# Altium integrated library AUVic_Integrated_Library_Op_amps.IntLib: 8 symbols
Pins are listed as number, name and electrical type; pins without a type are passive.

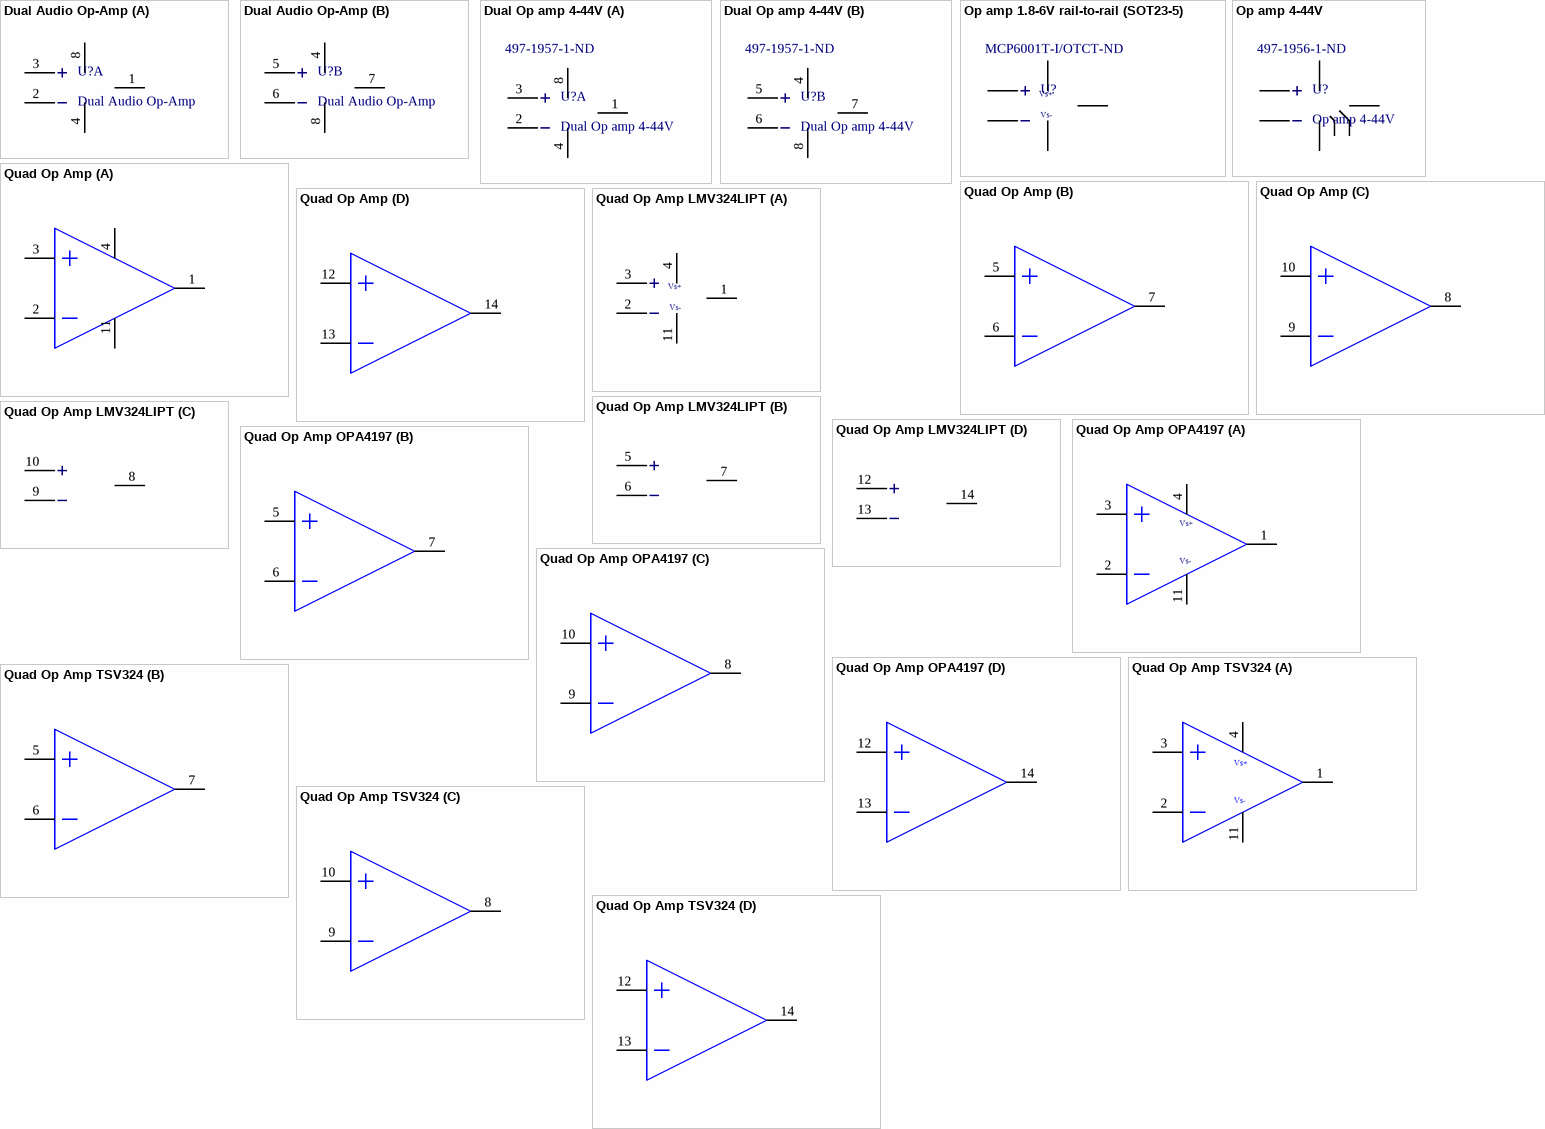
[diagram p0: symbols Dual Audio Op-Amp to Quad Op Amp TSV324]

## Dual Audio Op-Amp
designator U?
LM833; Made by: Jordan Day; Created on: 09/28/2016; Supplier 1: Digikey; Supplier 1 Part Number: 497-1597-1-ND
footprint SOC-8
part A pins: 1 Out, 2 V-, 3 V+, 4 Vcc-, 8 Vcc +
part B pins: 4 Vcc-, 5 V+, 6 V-, 7 Out, 8 Vcc+

## Dual Op amp 4-44V
designator U?  Supplier Part Number 2: 497-1957-1-ND
MC33172; Made by: Andy Bates; Created on: 06/10/2016; Supplier 1: Digikey; Supplier 1 Part Number: 497-1957-1-ND; Supplier 2: Digi-Key
footprint SOC-8
part A pins: 1 Out, 2 V-, 3 V+, 4 Vcc-, 8 Vcc +
part B pins: 4 Vcc-, 5 V+, 6 V-, 7 Out, 8 Vcc+

## Op amp 1.8-6V rail-to-rail (SOT23-5)
designator U?  Supplier Part Number 1: MCP6001T-I/OTCT-ND  (hidden comment: Op amp 1.8-6V rail-to-rail (SOT23-5))
Made by: Andy Bates; Created on: 05/10/2017; Supplier 1: Digi-Key
footprint SOT23-5
pins: 1 Out, 2 Vcc-, 3 V+, 4 V-, 5 Vcc +
text: Vs+; Vs-

## Op amp 4-44V
designator U?  Supplier Part Number 1: 497-1956-1-ND
MC33171; Made by: Andy Bates; Created on: 06/10/2016; Supplier 1 Part Number: 497-1957-1-ND; Supplier 1: Digi-Key
footprint SOC-8
pins: 1 Offset Null, 2 V-, 3 V+, 4 Vcc-, 5 Offset Null, 6 Out, 7 Vcc +

## Quad Op Amp
designator U?  (value not drawn)
LM324; LatestRevisionDate: 17-Jul-2002; LatestRevisionNote: Re-released for DXP Platform.; Publisher: Altium Limited; Created By: Jordan; Creation Date: 09/29/2016; Supplier: Digikey; Supplier Part Number: 497-1580-2-ND
signal-integrity model Connector
footprint SOP-14
part A pins: 1 Output 1, 2 Inverting Input 1, 3 Non-Inverting Input 1, 4 Vcc+, 11 Vcc-
part B pins: 5 Non-Inverting Input 2, 6 Inverting Input 2, 7 Output 2
part C pins: 8 Output 3, 9 Inverting Input 3, 10 Non-Inverting Input 3
part D pins: 12 Non-Inverting Input 4, 13 Inverting Input 3, 14 Output 4

## Quad Op Amp LMV324LIPT
designator U?  (value not drawn)
LM324; Created By: Silvano; Creation Date: 05/10/2017; Supplier 1: Digi-Key; Supplier Part Number 1: 497-13053-1-ND
footprint TSSOP14
part A pins: 1 Output 1, 2 Inverting Input 1, 3 Non-Inverting Input 1, 4 Vcc+, 11 Vcc-
part B pins: 5 Non-Inverting Input 2, 6 Inverting Input 2, 7 Output 2
part C pins: 8 Output 3, 9 Inverting Input 3, 10 Non-Inverting Input 3
part D pins: 12 Non-Inverting Input 4, 13 Inverting Input 3, 14 Output 4
part A text: Vs+; Vs-

## Quad Op Amp OPA4197
designator U?  Supplier Part Number 1: 296-45122-5-ND  (hidden comment: Quad Op Amp OPA4197)
OPA4197; LatestRevisionNote: Re-released for DXP Platform.; Publisher: Altium Limited; Created By: Gabriel Green; Creation Date: 21/6/2016; Supplier 1: Digi-Key
footprint SOP-14
part A pins: 1 Output 1, 2 Inverting Input 1, 3 Non-Inverting Input 1, 4 Vcc+, 11 Vcc-
part B pins: 5 Non-Inverting Input 2, 6 Inverting Input 2, 7 Output 2
part C pins: 8 Output 3, 9 Inverting Input 3, 10 Non-Inverting Input 3
part D pins: 12 Non-Inverting Input 4, 13 Inverting Input 3, 14 Output 4
part A text: Vs+; Vs-

## Quad Op Amp TSV324
designator U?  (value not drawn)
TSV324; LatestRevisionNote: Re-released for DXP Platform.; Publisher: Altium Limited; Created By: Jordan; Creation Date: 10/14/2016; Supplier: Digikey; Supplier Part Number: 497-8198-2-ND
footprint SOP-14
part A pins: 1 Output 1, 2 Inverting Input 1, 3 Non-Inverting Input 1, 4 Vcc+, 11 Vcc-
part B pins: 5 Non-Inverting Input 2, 6 Inverting Input 2, 7 Output 2
part C pins: 8 Output 3, 9 Inverting Input 3, 10 Non-Inverting Input 3
part D pins: 12 Non-Inverting Input 4, 13 Inverting Input 3, 14 Output 4
part A text: Vs+; Vs-